# Altium footprint library Murata.PcbLib: 65 footprints (part 3 of 5)
Each footprint in its own frame and in the unit in brackets; x right, y up, seen from the top. Pads: shape width x height; smd on the part's side, far side on the other; paste and mask are expansions set on the pad; w line width, h text height; cw(c..) or ccw(c..) is an arc to the next point about the centre after c.
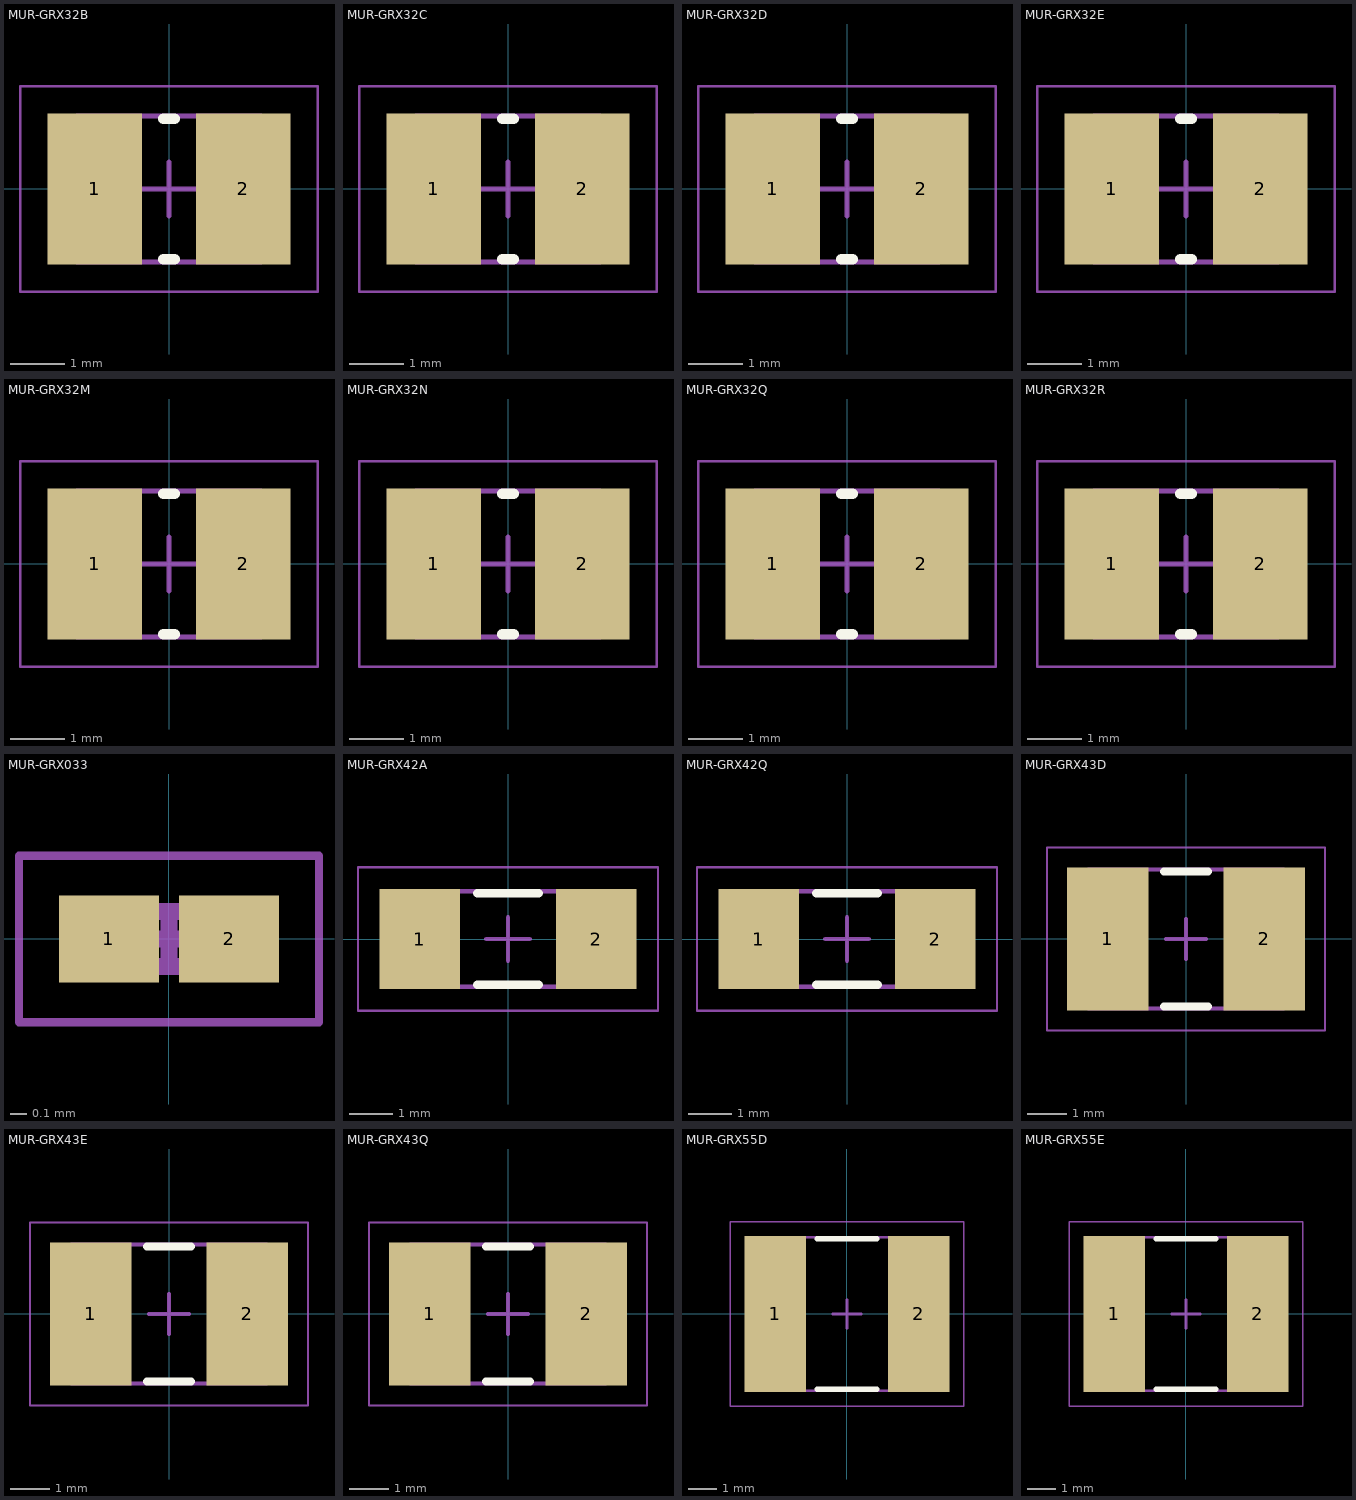
[diagram p2: the footprints below, top view; thin cyan lines are the x and y axes]

## MUR-GRX32B [mm] "Chip Capacitor, 2-Leads, Body 3.20x2.50mm, IPC Low Density"
height 1.35
pads (2):
  rect 1.75x2.8 smd: 1(-1.375,0) 2(1.375,0)
Top Overlay:
  lines w0.2: -0.1,-1.3 0.1,-1.3 ; -0.1,1.3 0.1,1.3
Mechanical 13:
  lines w0.1: -1.7,-1.35 1.7,-1.35 1.7,1.35 -1.7,1.35 -1.7,-1.35
Mechanical 15:
  lines w0.05: -2.75,-1.9 2.75,-1.9 2.75,1.9 -2.75,1.9 -2.75,-1.9
  lines w0.1: -0.5,0 0.5,0 ; 0,-0.5 0,0.5
3D body: height 1.35, standoff 0, extent 1.05,-1.35 1.7,1.35
3D body: height 1.35, standoff 0, extent -1.7,-1.35 -1.05,1.35
3D body: height 1.35, standoff 0, extent -1.05,-1.35 1.05,1.35

## MUR-GRX32C [mm] "Chip Capacitor, 2-Leads, Body 3.20x2.50mm, IPC Low Density"
height 1.8
pads (2):
  rect 1.75x2.8 smd: 1(-1.375,0) 2(1.375,0)
Top Overlay:
  lines w0.2: -0.1,-1.3 0.1,-1.3 ; -0.1,1.3 0.1,1.3
Mechanical 13:
  lines w0.1: -1.7,-1.35 1.7,-1.35 1.7,1.35 -1.7,1.35 -1.7,-1.35
Mechanical 15:
  lines w0.05: -2.75,-1.9 2.75,-1.9 2.75,1.9 -2.75,1.9 -2.75,-1.9
  lines w0.1: -0.5,0 0.5,0 ; 0,-0.5 0,0.5
3D body: height 1.8, standoff 0, extent 1.05,-1.35 1.7,1.35
3D body: height 1.8, standoff 0, extent -1.7,-1.35 -1.05,1.35
3D body: height 1.8, standoff 0, extent -1.05,-1.35 1.05,1.35

## MUR-GRX32D [mm] "Chip Capacitor, 2-Leads, Body 3.20x2.50mm, IPC Low Density"
height 2.2
pads (2):
  rect 1.75x2.8 smd: 1(-1.375,0) 2(1.375,0)
Top Overlay:
  lines w0.2: -0.1,-1.3 0.1,-1.3 ; -0.1,1.3 0.1,1.3
Mechanical 13:
  lines w0.1: -1.7,-1.35 1.7,-1.35 1.7,1.35 -1.7,1.35 -1.7,-1.35
Mechanical 15:
  lines w0.05: -2.75,-1.9 2.75,-1.9 2.75,1.9 -2.75,1.9 -2.75,-1.9
  lines w0.1: -0.5,0 0.5,0 ; 0,-0.5 0,0.5
3D body: height 2.2, standoff 0, extent 1.05,-1.35 1.7,1.35
3D body: height 2.2, standoff 0, extent -1.7,-1.35 -1.05,1.35
3D body: height 2.2, standoff 0, extent -1.05,-1.35 1.05,1.35

## MUR-GRX32E [mm] "Chip Capacitor, 2-Leads, Body 3.20x2.50mm, IPC Low Density"
height 2.7
pads (2):
  rect 1.75x2.8 smd: 1(-1.375,0) 2(1.375,0)
Top Overlay:
  lines w0.2: -0.1,-1.3 0.1,-1.3 ; -0.1,1.3 0.1,1.3
Mechanical 13:
  lines w0.1: -1.7,-1.35 1.7,-1.35 1.7,1.35 -1.7,1.35 -1.7,-1.35
Mechanical 15:
  lines w0.05: -2.75,-1.9 2.75,-1.9 2.75,1.9 -2.75,1.9 -2.75,-1.9
  lines w0.1: -0.5,0 0.5,0 ; 0,-0.5 0,0.5
3D body: height 2.7, standoff 0, extent 1.05,-1.35 1.7,1.35
3D body: height 2.7, standoff 0, extent -1.7,-1.35 -1.05,1.35
3D body: height 2.7, standoff 0, extent -1.05,-1.35 1.05,1.35

## MUR-GRX32M [mm] "Chip Capacitor, 2-Leads, Body 3.20x2.50mm, IPC Low Density"
height 1.25
pads (2):
  rect 1.75x2.8 smd: 1(-1.375,0) 2(1.375,0)
Top Overlay:
  lines w0.2: -0.1,-1.3 0.1,-1.3 ; -0.1,1.3 0.1,1.3
Mechanical 13:
  lines w0.1: -1.7,-1.35 1.7,-1.35 1.7,1.35 -1.7,1.35 -1.7,-1.35
Mechanical 15:
  lines w0.05: -2.75,-1.9 2.75,-1.9 2.75,1.9 -2.75,1.9 -2.75,-1.9
  lines w0.1: -0.5,0 0.5,0 ; 0,-0.5 0,0.5
3D body: height 1.25, standoff 0, extent 1.05,-1.35 1.7,1.35
3D body: height 1.25, standoff 0, extent -1.7,-1.35 -1.05,1.35
3D body: height 1.25, standoff 0, extent -1.05,-1.35 1.05,1.35

## MUR-GRX32N [mm] "Chip Capacitor, 2-Leads, Body 3.20x2.50mm, IPC Low Density"
height 1.45
pads (2):
  rect 1.75x2.8 smd: 1(-1.375,0) 2(1.375,0)
Top Overlay:
  lines w0.2: -0.1,-1.3 0.1,-1.3 ; -0.1,1.3 0.1,1.3
Mechanical 13:
  lines w0.1: -1.7,-1.35 1.7,-1.35 1.7,1.35 -1.7,1.35 -1.7,-1.35
Mechanical 15:
  lines w0.05: -2.75,-1.9 2.75,-1.9 2.75,1.9 -2.75,1.9 -2.75,-1.9
  lines w0.1: -0.5,0 0.5,0 ; 0,-0.5 0,0.5
3D body: height 1.45, standoff 0, extent 1.05,-1.35 1.7,1.35
3D body: height 1.45, standoff 0, extent -1.7,-1.35 -1.05,1.35
3D body: height 1.45, standoff 0, extent -1.05,-1.35 1.05,1.35

## MUR-GRX32Q [mm] "Chip Capacitor, 2-Leads, Body 3.20x2.50mm, IPC Low Density"
height 1.7
pads (2):
  rect 1.75x2.8 smd: 1(-1.375,0) 2(1.375,0)
Top Overlay:
  lines w0.2: -0.1,-1.3 0.1,-1.3 ; -0.1,1.3 0.1,1.3
Mechanical 13:
  lines w0.1: -1.7,-1.35 1.7,-1.35 1.7,1.35 -1.7,1.35 -1.7,-1.35
Mechanical 15:
  lines w0.05: -2.75,-1.9 2.75,-1.9 2.75,1.9 -2.75,1.9 -2.75,-1.9
  lines w0.1: -0.5,0 0.5,0 ; 0,-0.5 0,0.5
3D body: height 1.7, standoff 0, extent 1.05,-1.35 1.7,1.35
3D body: height 1.7, standoff 0, extent -1.7,-1.35 -1.05,1.35
3D body: height 1.7, standoff 0, extent -1.05,-1.35 1.05,1.35

## MUR-GRX32R [mm] "Chip Capacitor, 2-Leads, Body 3.20x2.50mm, IPC Low Density"
height 2
pads (2):
  rect 1.75x2.8 smd: 1(-1.375,0) 2(1.375,0)
Top Overlay:
  lines w0.2: -0.1,-1.3 0.1,-1.3 ; -0.1,1.3 0.1,1.3
Mechanical 13:
  lines w0.1: -1.7,-1.35 1.7,-1.35 1.7,1.35 -1.7,1.35 -1.7,-1.35
Mechanical 15:
  lines w0.05: -2.75,-1.9 2.75,-1.9 2.75,1.9 -2.75,1.9 -2.75,-1.9
  lines w0.1: -0.5,0 0.5,0 ; 0,-0.5 0,0.5
3D body: height 2, standoff 0, extent 1.05,-1.35 1.7,1.35
3D body: height 2, standoff 0, extent -1.7,-1.35 -1.05,1.35
3D body: height 2, standoff 0, extent -1.05,-1.35 1.05,1.35

## MUR-GRX033 [mm] "Chip Capacitor, 2-Leads, Body 0.60x0.30mm, IPC Low Density"
height 0.33
pads (2):
  rect 0.6x0.52 smd: 1(-0.36,0) 2(0.36,0)
Mechanical 13:
  lines w0.1: -0.315,-0.165 0.315,-0.165 0.315,0.165 -0.315,0.165 -0.315,-0.165
Mechanical 15:
  lines w0.05: -0.9,-0.5 0.9,-0.5 0.9,0.5 -0.9,0.5 -0.9,-0.5
  lines w0.1: -0.165,0 0.165,0 ; 0,-0.165 0,0.165
3D body: height 0.33, standoff 0, extent 0.165,-0.165 0.315,0.165
3D body: height 0.33, standoff 0, extent -0.315,-0.165 -0.165,0.165
3D body: height 0.33, standoff 0, extent -0.165,-0.165 0.165,0.165

## MUR-GRX42A [mm] "Chip Capacitor, 2-Leads, Body 4.50x2.00mm, IPC Low Density"
height 1.1
pads (2):
  rect 1.85x2.3 smd: 1(-2.025,0) 2(2.025,0)
Top Overlay:
  lines w0.2: -0.7,-1.05 0.7,-1.05 ; -0.7,1.05 0.7,1.05
Mechanical 13:
  lines w0.1: -2.4,-1.1 2.4,-1.1 2.4,1.1 -2.4,1.1 -2.4,-1.1
Mechanical 15:
  lines w0.05: -3.45,-1.65 3.45,-1.65 3.45,1.65 -3.45,1.65 -3.45,-1.65
  lines w0.1: -0.5,0 0.5,0 ; 0,-0.5 0,0.5
3D body: height 1.1, standoff 0, extent 1.75,-1.1 2.4,1.1
3D body: height 1.1, standoff 0, extent -2.4,-1.1 -1.75,1.1
3D body: height 1.1, standoff 0, extent -1.75,-1.1 1.75,1.1

## MUR-GRX42Q [mm] "Chip Capacitor, 2-Leads, Body 4.50x2.00mm, IPC Low Density"
height 1.7
pads (2):
  rect 1.85x2.3 smd: 1(-2.025,0) 2(2.025,0)
Top Overlay:
  lines w0.2: -0.7,-1.05 0.7,-1.05 ; -0.7,1.05 0.7,1.05
Mechanical 13:
  lines w0.1: -2.4,-1.1 2.4,-1.1 2.4,1.1 -2.4,1.1 -2.4,-1.1
Mechanical 15:
  lines w0.05: -3.45,-1.65 3.45,-1.65 3.45,1.65 -3.45,1.65 -3.45,-1.65
  lines w0.1: -0.5,0 0.5,0 ; 0,-0.5 0,0.5
3D body: height 1.7, standoff 0, extent 1.75,-1.1 2.4,1.1
3D body: height 1.7, standoff 0, extent -2.4,-1.1 -1.75,1.1
3D body: height 1.7, standoff 0, extent -1.75,-1.1 1.75,1.1

## MUR-GRX43D [mm] "Chip Capacitor, 2-Leads, Body 4.50x3.20mm, IPC Low Density"
height 2.2
pads (2):
  rect 2.05x3.6 smd: 1(-1.975,0) 2(1.975,0)
Top Overlay:
  lines w0.2: -0.55,-1.7 0.55,-1.7 ; -0.55,1.7 0.55,1.7
Mechanical 13:
  lines w0.1: -2.45,-1.75 2.45,-1.75 2.45,1.75 -2.45,1.75 -2.45,-1.75
Mechanical 15:
  lines w0.05: -3.5,-2.3 3.5,-2.3 3.5,2.3 -3.5,2.3 -3.5,-2.3
  lines w0.1: -0.5,0 0.5,0 ; 0,-0.5 0,0.5
3D body: height 2.2, standoff 0, extent 1.75,-1.75 2.45,1.75
3D body: height 2.2, standoff 0, extent -2.45,-1.75 -1.75,1.75
3D body: height 2.2, standoff 0, extent -1.75,-1.75 1.75,1.75

## MUR-GRX43E [mm] "Chip Capacitor, 2-Leads, Body 4.50x3.20mm, IPC Low Density"
height 2.7
pads (2):
  rect 2.05x3.6 smd: 1(-1.975,0) 2(1.975,0)
Top Overlay:
  lines w0.2: -0.55,-1.7 0.55,-1.7 ; -0.55,1.7 0.55,1.7
Mechanical 13:
  lines w0.1: -2.45,-1.75 2.45,-1.75 2.45,1.75 -2.45,1.75 -2.45,-1.75
Mechanical 15:
  lines w0.05: -3.5,-2.3 3.5,-2.3 3.5,2.3 -3.5,2.3 -3.5,-2.3
  lines w0.1: -0.5,0 0.5,0 ; 0,-0.5 0,0.5
3D body: height 2.7, standoff 0, extent 1.75,-1.75 2.45,1.75
3D body: height 2.7, standoff 0, extent -2.45,-1.75 -1.75,1.75
3D body: height 2.7, standoff 0, extent -1.75,-1.75 1.75,1.75

## MUR-GRX43Q [mm] "Chip Capacitor, 2-Leads, Body 4.50x3.20mm, IPC Low Density"
height 1.7
pads (2):
  rect 2.05x3.6 smd: 1(-1.975,0) 2(1.975,0)
Top Overlay:
  lines w0.2: -0.55,-1.7 0.55,-1.7 ; -0.55,1.7 0.55,1.7
Mechanical 13:
  lines w0.1: -2.45,-1.75 2.45,-1.75 2.45,1.75 -2.45,1.75 -2.45,-1.75
Mechanical 15:
  lines w0.05: -3.5,-2.3 3.5,-2.3 3.5,2.3 -3.5,2.3 -3.5,-2.3
  lines w0.1: -0.5,0 0.5,0 ; 0,-0.5 0,0.5
3D body: height 1.7, standoff 0, extent 1.75,-1.75 2.45,1.75
3D body: height 1.7, standoff 0, extent -2.45,-1.75 -1.75,1.75
3D body: height 1.7, standoff 0, extent -1.75,-1.75 1.75,1.75

## MUR-GRX55D [mm] "Chip Capacitor, 2-Leads, Body 5.70x5.00mm, IPC Low Density"
height 2.2
pads (2):
  rect 2.15x5.5 smd: 1(-2.525,0) 2(2.525,0)
Top Overlay:
  lines w0.2: -1.05,-2.65 1.05,-2.65 ; -1.05,2.65 1.05,2.65
Mechanical 13:
  lines w0.1: -3.05,-2.7 3.05,-2.7 3.05,2.7 -3.05,2.7 -3.05,-2.7
Mechanical 15:
  lines w0.05: -4.1,-3.25 4.1,-3.25 4.1,3.25 -4.1,3.25 -4.1,-3.25
  lines w0.1: -0.5,0 0.5,0 ; 0,-0.5 0,0.5
3D body: height 2.2, standoff 0, extent 2.3,-2.7 3.05,2.7
3D body: height 2.2, standoff 0, extent -3.05,-2.7 -2.3,2.7
3D body: height 2.2, standoff 0, extent -2.3,-2.7 2.3,2.7

## MUR-GRX55E [mm] "Chip Capacitor, 2-Leads, Body 5.70x5.00mm, IPC Low Density"
height 2.7
pads (2):
  rect 2.15x5.5 smd: 1(-2.525,0) 2(2.525,0)
Top Overlay:
  lines w0.2: -1.05,-2.65 1.05,-2.65 ; -1.05,2.65 1.05,2.65
Mechanical 13:
  lines w0.1: -3.05,-2.7 3.05,-2.7 3.05,2.7 -3.05,2.7 -3.05,-2.7
Mechanical 15:
  lines w0.05: -4.1,-3.25 4.1,-3.25 4.1,3.25 -4.1,3.25 -4.1,-3.25
  lines w0.1: -0.5,0 0.5,0 ; 0,-0.5 0,0.5
3D body: height 2.7, standoff 0, extent 2.3,-2.7 3.05,2.7
3D body: height 2.7, standoff 0, extent -3.05,-2.7 -2.3,2.7
3D body: height 2.7, standoff 0, extent -2.3,-2.7 2.3,2.7